# Altium footprint library CAPC15256X06N.PcbLib: 2 footprints
Each footprint in its own frame and in the unit in brackets; x right, y up, seen from the top. Pads: shape width x height; smd on the part's side, far side on the other; paste and mask are expansions set on the pad; w line width, h text height; cw(c..) or ccw(c..) is an arc to the next point about the centre after c.
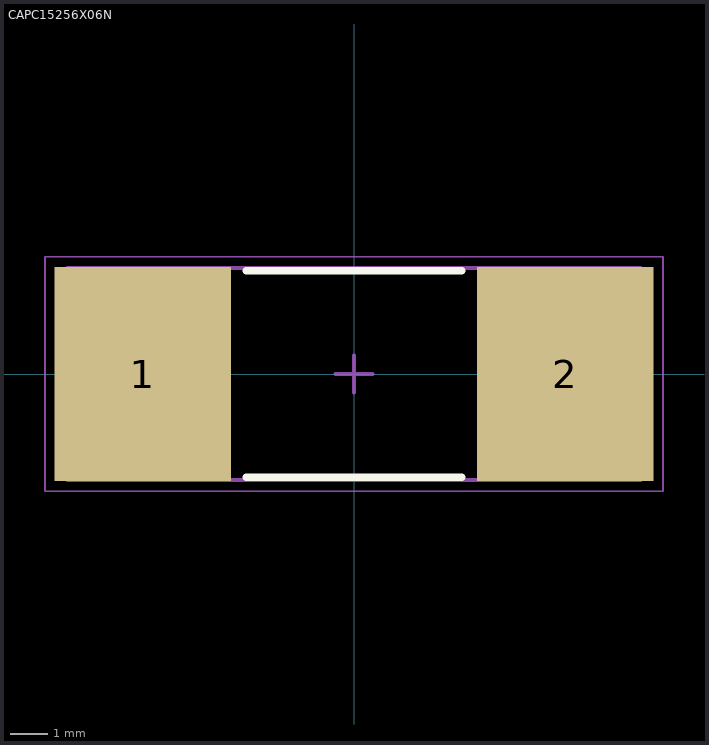
[diagram p0: the footprints below, top view; thin cyan lines are the x and y axes]

## CAPC15256X06N [mm] "Chip Capacitor, 2-Leads, Body 15.20x5.60mm, IPC Medium Density"
height 0.6
pads (2):
  rect 4.75x5.75 smd: 1(-5.675,0) 2(5.675,0)
Top Overlay:
  lines w0.2: -2.9,-2.775 2.9,-2.775 ; -2.9,2.775 2.9,2.775
Mechanical 13:
  lines w0.1: -7.7,-2.85 7.7,-2.85 7.7,2.85 -7.7,2.85 -7.7,-2.85
Mechanical 15:
  lines w0.05: -8.3,-3.15 8.3,-3.15 8.3,3.15 -8.3,3.15 -8.3,-3.15
  lines w0.1: -0.5,0 0.5,0 ; 0,-0.5 0,0.5
3D body: height 0.6, standoff 0, extent 3.6,-2.85 7.7,2.85
3D body: height 0.6, standoff 0, extent -7.7,-2.85 -3.6,2.85
3D body: height 0.6, standoff 0, extent -3.6,-2.85 3.6,2.85

## PCBComponent_1 [mm]